# EAGLE library part 431181015816 (library switches)
Switch Tactile Spst-No 0.02a 15v
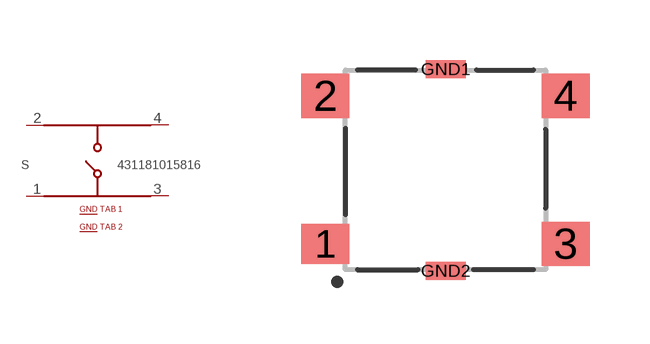
[diagram p0: symbol with the pads of 431181015816; footprint 431181015816]

Designator prefix S

## 431181015816 (MF: Wurth Electronics; MP: 431151015826; VALUE: 431181015816)  [431181015816]
1  1  pas
2  2  pas
3  3  pas
4  4  pas
GND1  6  pas
GND2  5  pas

## Footprint 431181015816 (pad centres in mm)
WURTH - WS-TSS-5x5 mm SMD Tact Switch with ground terminal, 4 pins
smd 1.2 x 1: 1 -3,-1.85
smd 1.2 x 1.1: 2 -3,1.85; 3 3,-1.85; 4 3,1.85
smd 1 x 0.45: GND1 0,2.525; GND2 0,-2.525